# Altium footprint library MECH_MOUNTING_HOLE.PcbLib: 30 footprints (part 2 of 2)
Each footprint in its own frame and in the unit in brackets; x right, y up, seen from the top. Pads: shape width x height; smd on the part's side, far side on the other; paste and mask are expansions set on the pad; w line width, h text height; cw(c..) or ccw(c..) is an arc to the next point about the centre after c.
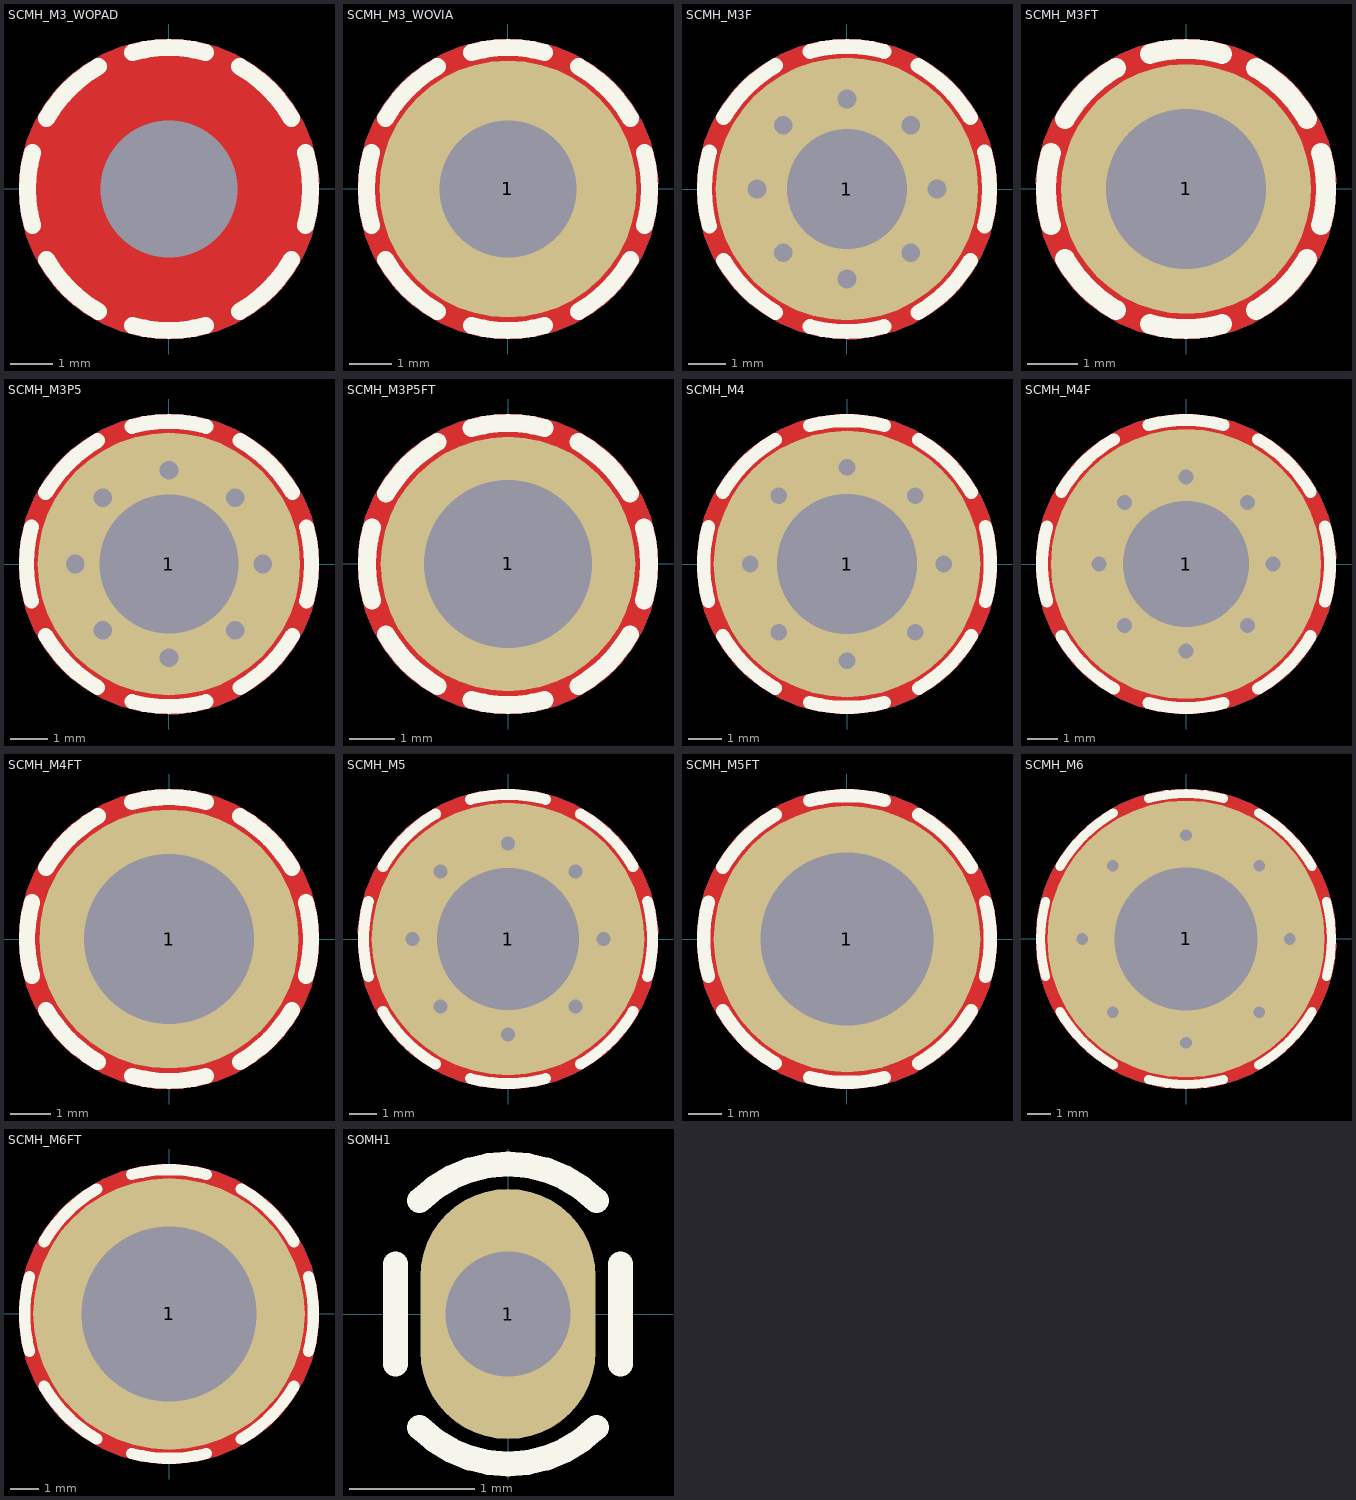
[diagram p1: the footprints below, top view; thin cyan lines are the x and y axes]

## SCMH_M3_WOPAD [mm] "SCREW mouting, M3, 3.0mm diameter and 6.0mm PanHead"
pads (1):
  round 0 hole 3.2 unplated mask+0.1: 1(0,0)
Top Layer:
  pour cut-out: 0,3.5 -0.229,3.5 -0.684,3.44 -1.127,3.321 -1.551,3.146 -1.949,2.916 -2.313,2.637 -2.637,2.313 -2.916,1.949 -3.146,1.551 -3.321,1.127 -3.44,0.684 -3.5,0.229 -3.5,0 -3.5,-0.229 -3.44,-0.684 -3.321,-1.127 -3.146,-1.551 -2.916,-1.949 -2.637,-2.313 -2.313,-2.637 -1.949,-2.916 -1.551,-3.146 -1.127,-3.321 -0.684,-3.44 -0.229,-3.5 0,-3.5 0.229,-3.5 0.684,-3.44 1.127,-3.321 1.551,-3.146 1.949,-2.916 2.313,-2.637 2.637,-2.313 2.916,-1.949 3.146,-1.551 3.321,-1.127 3.44,-0.684 3.5,-0.229 3.5,0 3.5,0.229 3.44,0.684 3.321,1.127 3.146,1.551 2.916,1.949 2.637,2.313 2.313,2.637 1.949,2.916 1.551,3.146 1.127,3.321 0.684,3.44 0.229,3.5
Bottom Layer:
  pour cut-out: 0,3.5 -0.229,3.5 -0.684,3.44 -1.127,3.321 -1.551,3.146 -1.949,2.916 -2.313,2.637 -2.637,2.313 -2.916,1.949 -3.146,1.551 -3.321,1.127 -3.44,0.684 -3.5,0.229 -3.5,0 -3.5,-0.229 -3.44,-0.684 -3.321,-1.127 -3.146,-1.551 -2.916,-1.949 -2.637,-2.313 -2.313,-2.637 -1.949,-2.916 -1.551,-3.146 -1.127,-3.321 -0.684,-3.44 -0.229,-3.5 0,-3.5 0.229,-3.5 0.684,-3.44 1.127,-3.321 1.551,-3.146 1.949,-2.916 2.313,-2.637 2.637,-2.313 2.916,-1.949 3.146,-1.551 3.321,-1.127 3.44,-0.684 3.5,-0.229 3.5,0 3.5,0.229 3.44,0.684 3.321,1.127 3.146,1.551 2.916,1.949 2.637,2.313 2.313,2.637 1.949,2.916 1.551,3.146 1.127,3.321 0.684,3.44 0.229,3.5
Top Overlay:
  lines w0.4: -3.188,-0.854 cw(c0,0) -3.188,0.854 ; -2.858,-1.65 ccw(c0,0) -1.65,-2.858 ; -2.858,1.65 cw(c0,0) -1.65,2.858 ; -0.854,-3.188 ccw(c0,0) 0.854,-3.188 ; -0.854,3.188 cw(c0,0) 0.854,3.188 ; 1.65,-2.858 ccw(c0,0) 2.858,-1.65 ; 1.65,2.858 cw(c0,0) 2.858,1.65 ; 3.188,-0.854 ccw(c0,0) 3.188,0.854

## SCMH_M3_WOVIA [mm] "SCREW mouting, M3, 3.0mm diameter and 6.0mm PanHead"
pads (1):
  round 6 / inner round 3.5 / far side round 6 hole 3.2 mask+0.1: 1(0,0)
Top Layer:
  pour cut-out: 0,3.5 -0.229,3.5 -0.684,3.44 -1.127,3.321 -1.551,3.146 -1.949,2.916 -2.313,2.637 -2.637,2.313 -2.916,1.949 -3.146,1.551 -3.321,1.127 -3.44,0.684 -3.5,0.229 -3.5,0 -3.5,-0.229 -3.44,-0.684 -3.321,-1.127 -3.146,-1.551 -2.916,-1.949 -2.637,-2.313 -2.313,-2.637 -1.949,-2.916 -1.551,-3.146 -1.127,-3.321 -0.684,-3.44 -0.229,-3.5 0,-3.5 0.229,-3.5 0.684,-3.44 1.127,-3.321 1.551,-3.146 1.949,-2.916 2.313,-2.637 2.637,-2.313 2.916,-1.949 3.146,-1.551 3.321,-1.127 3.44,-0.684 3.5,-0.229 3.5,0 3.5,0.229 3.44,0.684 3.321,1.127 3.146,1.551 2.916,1.949 2.637,2.313 2.313,2.637 1.949,2.916 1.551,3.146 1.127,3.321 0.684,3.44 0.229,3.5
Bottom Layer:
  pour cut-out: 0,3.5 -0.229,3.5 -0.684,3.44 -1.127,3.321 -1.551,3.146 -1.949,2.916 -2.313,2.637 -2.637,2.313 -2.916,1.949 -3.146,1.551 -3.321,1.127 -3.44,0.684 -3.5,0.229 -3.5,0 -3.5,-0.229 -3.44,-0.684 -3.321,-1.127 -3.146,-1.551 -2.916,-1.949 -2.637,-2.313 -2.313,-2.637 -1.949,-2.916 -1.551,-3.146 -1.127,-3.321 -0.684,-3.44 -0.229,-3.5 0,-3.5 0.229,-3.5 0.684,-3.44 1.127,-3.321 1.551,-3.146 1.949,-2.916 2.313,-2.637 2.637,-2.313 2.916,-1.949 3.146,-1.551 3.321,-1.127 3.44,-0.684 3.5,-0.229 3.5,0 3.5,0.229 3.44,0.684 3.321,1.127 3.146,1.551 2.916,1.949 2.637,2.313 2.313,2.637 1.949,2.916 1.551,3.146 1.127,3.321 0.684,3.44 0.229,3.5
Top Overlay:
  lines w0.4: -3.188,-0.854 cw(c0,0) -3.188,0.854 ; -2.858,-1.65 ccw(c0,0) -1.65,-2.858 ; -2.858,1.65 cw(c0,0) -1.65,2.858 ; -0.854,-3.188 ccw(c0,0) 0.854,-3.188 ; -0.854,3.188 cw(c0,0) 0.854,3.188 ; 1.65,-2.858 ccw(c0,0) 2.858,-1.65 ; 1.65,2.858 cw(c0,0) 2.858,1.65 ; 3.188,-0.854 ccw(c0,0) 3.188,0.854

## SCMH_M3F [mm] "SCREW mouting, M3, 3.0mm diameter and 6.0mm FlangeHead"
pads (1):
  round 7 / inner round 3.5 / far side round 7 hole 3.2 mask+0.1: 1(0,0)
via -1.697,-1.697 diameter 0.8 hole 0.5
via 1.697,1.697 diameter 0.8 hole 0.5
via -2.4,0 diameter 0.8 hole 0.5
via 2.4,0 diameter 0.8 hole 0.5
via -1.697,1.697 diameter 0.8 hole 0.5
via 1.697,-1.697 diameter 0.8 hole 0.5
via 0,-2.4 diameter 0.8 hole 0.5
via 0,2.4 diameter 0.8 hole 0.5
Top Layer:
  pour cut-out: 0,4 -0.262,4 -0.782,3.932 -1.288,3.796 -1.773,3.595 -2.227,3.333 -2.643,3.014 -3.014,2.643 -3.333,2.227 -3.595,1.773 -3.796,1.289 -3.931,0.782 -4,0.262 -4,0 -4,-0.262 -3.931,-0.782 -3.796,-1.288 -3.595,-1.773 -3.333,-2.227 -3.014,-2.643 -2.643,-3.014 -2.227,-3.333 -1.773,-3.595 -1.288,-3.796 -0.782,-3.931 -0.262,-4 0,-4 0.262,-4 0.782,-3.932 1.289,-3.796 1.773,-3.595 2.227,-3.333 2.643,-3.014 3.014,-2.643 3.333,-2.227 3.595,-1.773 3.796,-1.289 3.932,-0.782 4,-0.262 4,0 4,0.262 3.932,0.782 3.796,1.289 3.595,1.773 3.333,2.227 3.014,2.643 2.643,3.014 2.227,3.333 1.773,3.595 1.289,3.796 0.782,3.932 0.262,4
Bottom Layer:
  pour cut-out: 0,4 -0.262,4 -0.782,3.932 -1.288,3.796 -1.773,3.595 -2.227,3.333 -2.643,3.014 -3.014,2.643 -3.333,2.227 -3.595,1.773 -3.796,1.289 -3.931,0.782 -4,0.262 -4,0 -4,-0.262 -3.931,-0.782 -3.796,-1.288 -3.595,-1.773 -3.333,-2.227 -3.014,-2.643 -2.643,-3.014 -2.227,-3.333 -1.773,-3.595 -1.288,-3.796 -0.782,-3.931 -0.262,-4 0,-4 0.262,-4 0.782,-3.932 1.289,-3.796 1.773,-3.595 2.227,-3.333 2.643,-3.014 3.014,-2.643 3.333,-2.227 3.595,-1.773 3.796,-1.289 3.932,-0.782 4,-0.262 4,0 4,0.262 3.932,0.782 3.796,1.289 3.595,1.773 3.333,2.227 3.014,2.643 2.643,3.014 2.227,3.333 1.773,3.595 1.289,3.796 0.782,3.932 0.262,4
Top Overlay:
  lines w0.4: -3.671,-0.984 cw(c0,0) -3.671,0.984 ; -3.291,-1.9 ccw(c0,0) -1.9,-3.291 ; -3.291,1.9 cw(c0,0) -1.9,3.291 ; -0.984,-3.671 ccw(c0,0) 0.984,-3.671 ; -0.984,3.671 cw(c0,0) 0.984,3.671 ; 1.9,-3.291 ccw(c0,0) 3.291,-1.9 ; 1.9,3.291 cw(c0,0) 3.291,1.9 ; 3.671,-0.984 ccw(c0,0) 3.671,0.984

## SCMH_M3FT [mm] "SCREW mouting, M3, 3.0mm diameter and 6.0mm, FlatHead"
pads (1):
  round 5 / inner round 3.5 / far side round 5 hole 3.2 mask+0.1: 1(0,0)
Top Layer:
  pour cut-out: 0,3 -0.197,3 -0.587,2.949 -0.966,2.847 -1.33,2.696 -1.67,2.5 -1.982,2.26 -2.26,1.982 -2.5,1.67 -2.696,1.33 -2.847,0.966 -2.949,0.587 -3,0.197 -3,0 -3,-0.197 -2.949,-0.587 -2.847,-0.966 -2.696,-1.33 -2.5,-1.67 -2.26,-1.982 -1.982,-2.26 -1.67,-2.5 -1.33,-2.696 -0.966,-2.847 -0.587,-2.949 -0.197,-3 0,-3 0.197,-3 0.587,-2.949 0.966,-2.847 1.33,-2.696 1.67,-2.5 1.982,-2.26 2.26,-1.982 2.5,-1.67 2.696,-1.33 2.847,-0.966 2.949,-0.587 3,-0.197 3,0 3,0.197 2.949,0.587 2.847,0.966 2.696,1.33 2.5,1.67 2.26,1.982 1.982,2.26 1.67,2.5 1.33,2.696 0.966,2.847 0.587,2.949 0.197,3
Bottom Layer:
  pour cut-out: 0,3 -0.197,3 -0.587,2.949 -0.966,2.847 -1.33,2.696 -1.67,2.5 -1.982,2.26 -2.26,1.982 -2.5,1.67 -2.696,1.33 -2.847,0.966 -2.949,0.587 -3,0.197 -3,0 -3,-0.197 -2.949,-0.587 -2.847,-0.966 -2.696,-1.33 -2.5,-1.67 -2.26,-1.982 -1.982,-2.26 -1.67,-2.5 -1.33,-2.696 -0.966,-2.847 -0.587,-2.949 -0.197,-3 0,-3 0.197,-3 0.587,-2.949 0.966,-2.847 1.33,-2.696 1.67,-2.5 1.982,-2.26 2.26,-1.982 2.5,-1.67 2.696,-1.33 2.847,-0.966 2.949,-0.587 3,-0.197 3,0 3,0.197 2.949,0.587 2.847,0.966 2.696,1.33 2.5,1.67 2.26,1.982 1.982,2.26 1.67,2.5 1.33,2.696 0.966,2.847 0.587,2.949 0.197,3
Top Overlay:
  lines w0.4: -2.705,-0.725 cw(c0,0) -2.705,0.725 ; -2.425,-1.4 ccw(c0,0) -1.4,-2.425 ; -2.425,1.4 cw(c0,0) -1.4,2.425 ; -0.725,-2.705 ccw(c0,0) 0.725,-2.705 ; -0.725,2.705 cw(c0,0) 0.725,2.705 ; 1.4,-2.425 ccw(c0,0) 2.425,-1.4 ; 1.4,2.425 cw(c0,0) 2.425,1.4 ; 2.705,-0.725 ccw(c0,0) 2.705,0.725

## SCMH_M3P5 [mm] "SCREW mouting, M3.5, 3.5mm diameter and 7.0mm PanHead"
pads (1):
  round 7 / inner round 4 / far side round 7 hole 3.7 mask+0.1: 1(0,0)
via 0,-2.5 diameter 0.8 hole 0.5
via 0,2.5 diameter 0.8 hole 0.5
via -1.768,1.768 diameter 0.8 hole 0.5
via 1.768,-1.768 diameter 0.8 hole 0.5
via -2.5,0 diameter 0.8 hole 0.5
via 2.5,0 diameter 0.8 hole 0.5
via -1.768,-1.768 diameter 0.8 hole 0.5
via 1.768,1.768 diameter 0.8 hole 0.5
Top Layer:
  pour cut-out: 0,4 -0.262,4 -0.782,3.932 -1.288,3.796 -1.773,3.595 -2.227,3.333 -2.643,3.014 -3.014,2.643 -3.333,2.227 -3.595,1.773 -3.796,1.289 -3.931,0.782 -4,0.262 -4,0 -4,-0.262 -3.931,-0.782 -3.796,-1.288 -3.595,-1.773 -3.333,-2.227 -3.014,-2.643 -2.643,-3.014 -2.227,-3.333 -1.773,-3.595 -1.288,-3.796 -0.782,-3.931 -0.262,-4 0,-4 0.262,-4 0.782,-3.932 1.289,-3.796 1.773,-3.595 2.227,-3.333 2.643,-3.014 3.014,-2.643 3.333,-2.227 3.595,-1.773 3.796,-1.289 3.932,-0.782 4,-0.262 4,0 4,0.262 3.932,0.782 3.796,1.289 3.595,1.773 3.333,2.227 3.014,2.643 2.643,3.014 2.227,3.333 1.773,3.595 1.289,3.796 0.782,3.932 0.262,4
Bottom Layer:
  pour cut-out: 0,4 -0.262,4 -0.782,3.932 -1.288,3.796 -1.773,3.595 -2.227,3.333 -2.643,3.014 -3.014,2.643 -3.333,2.227 -3.595,1.773 -3.796,1.289 -3.931,0.782 -4,0.262 -4,0 -4,-0.262 -3.931,-0.782 -3.796,-1.288 -3.595,-1.773 -3.333,-2.227 -3.014,-2.643 -2.643,-3.014 -2.227,-3.333 -1.773,-3.595 -1.288,-3.796 -0.782,-3.931 -0.262,-4 0,-4 0.262,-4 0.782,-3.932 1.289,-3.796 1.773,-3.595 2.227,-3.333 2.643,-3.014 3.014,-2.643 3.333,-2.227 3.595,-1.773 3.796,-1.289 3.932,-0.782 4,-0.262 4,0 4,0.262 3.932,0.782 3.796,1.289 3.595,1.773 3.333,2.227 3.014,2.643 2.643,3.014 2.227,3.333 1.773,3.595 1.289,3.796 0.782,3.932 0.262,4
Top Overlay:
  lines w0.4: -3.671,-0.984 cw(c0,0) -3.671,0.984 ; -3.291,-1.9 ccw(c0,0) -1.9,-3.291 ; -3.291,1.9 cw(c0,0) -1.9,3.291 ; -0.984,-3.671 ccw(c0,0) 0.984,-3.671 ; -0.984,3.671 cw(c0,0) 0.984,3.671 ; 1.9,-3.291 ccw(c0,0) 3.291,-1.9 ; 1.9,3.291 cw(c0,0) 3.291,1.9 ; 3.671,-0.984 ccw(c0,0) 3.671,0.984

## SCMH_M3P5FT [mm] "SCREW mouting, M3.5, 3.5mm diameter and 7.0mm, FlatHead"
pads (1):
  round 5.6 / inner round 4 / far side round 5.6 hole 3.7 mask+0.1: 1(0,0)
Top Layer:
  pour cut-out: 0,3.3 -0.216,3.3 -0.645,3.244 -1.063,3.132 -1.463,2.966 -1.837,2.75 -2.181,2.486 -2.486,2.181 -2.75,1.837 -2.966,1.463 -3.132,1.063 -3.244,0.645 -3.3,0.216 -3.3,0 -3.3,-0.216 -3.244,-0.645 -3.132,-1.063 -2.966,-1.463 -2.75,-1.837 -2.486,-2.181 -2.181,-2.486 -1.837,-2.75 -1.463,-2.966 -1.063,-3.132 -0.645,-3.244 -0.216,-3.3 0,-3.3 0.216,-3.3 0.645,-3.244 1.063,-3.132 1.463,-2.966 1.837,-2.75 2.18,-2.486 2.486,-2.181 2.75,-1.837 2.966,-1.463 3.132,-1.063 3.244,-0.645 3.3,-0.216 3.3,0 3.3,0.216 3.244,0.645 3.132,1.063 2.966,1.463 2.75,1.837 2.486,2.181 2.181,2.486 1.837,2.75 1.463,2.966 1.063,3.132 0.645,3.244 0.216,3.3
Bottom Layer:
  pour cut-out: 0,3.3 -0.216,3.3 -0.645,3.244 -1.063,3.132 -1.463,2.966 -1.837,2.75 -2.181,2.486 -2.486,2.181 -2.75,1.837 -2.966,1.463 -3.132,1.063 -3.244,0.645 -3.3,0.216 -3.3,0 -3.3,-0.216 -3.244,-0.645 -3.132,-1.063 -2.966,-1.463 -2.75,-1.837 -2.486,-2.181 -2.181,-2.486 -1.837,-2.75 -1.463,-2.966 -1.063,-3.132 -0.645,-3.244 -0.216,-3.3 0,-3.3 0.216,-3.3 0.645,-3.244 1.063,-3.132 1.463,-2.966 1.837,-2.75 2.18,-2.486 2.486,-2.181 2.75,-1.837 2.966,-1.463 3.132,-1.063 3.244,-0.645 3.3,-0.216 3.3,0 3.3,0.216 3.244,0.645 3.132,1.063 2.966,1.463 2.75,1.837 2.486,2.181 2.181,2.486 1.837,2.75 1.463,2.966 1.063,3.132 0.645,3.244 0.216,3.3
Top Overlay:
  lines w0.4: -2.994,-0.802 cw(c0,0) -2.994,0.802 ; -2.685,-1.55 ccw(c0,0) -1.55,-2.685 ; -2.685,1.55 cw(c0,0) -1.55,2.685 ; -0.802,-2.994 ccw(c0,0) 0.802,-2.994 ; -0.802,2.994 cw(c0,0) 0.802,2.994 ; 1.55,-2.685 ccw(c0,0) 2.685,-1.55 ; 1.55,2.685 cw(c0,0) 2.685,1.55 ; 2.994,-0.802 ccw(c0,0) 2.994,0.802

## SCMH_M4 [mm] "SCREW mouting, M4, 4mm diameter and 8.0mm PanHead"
pads (1):
  round 8 / inner round 4.5 / far side round 8 hole 4.2 mask+0.1: 1(0,0)
via -2.051,-2.051 diameter 0.8 hole 0.5
via 2.051,2.051 diameter 0.8 hole 0.5
via -2.9,0 diameter 0.8 hole 0.5
via 2.9,0 diameter 0.8 hole 0.5
via -2.051,2.051 diameter 0.8 hole 0.5
via 2.051,-2.051 diameter 0.8 hole 0.5
via 0,-2.9 diameter 0.8 hole 0.5
via 0,2.9 diameter 0.8 hole 0.5
Top Layer:
  pour cut-out: 0,4.5 -0.295,4.5 -0.88,4.423 -1.45,4.27 -1.994,4.045 -2.505,3.75 -2.973,3.391 -3.39,2.974 -3.749,2.506 -4.044,1.995 -4.27,1.45 -4.423,0.88 -4.5,0.295 -4.5,0 -4.5,-0.295 -4.423,-0.879 -4.27,-1.449 -4.044,-1.994 -3.749,-2.505 -3.39,-2.973 -2.973,-3.39 -2.505,-3.749 -1.994,-4.044 -1.449,-4.269 -0.88,-4.422 -0.295,-4.499 0,-4.499 0.295,-4.499 0.88,-4.422 1.449,-4.269 1.994,-4.044 2.505,-3.749 2.973,-3.39 3.39,-2.973 3.749,-2.505 4.044,-1.994 4.27,-1.449 4.422,-0.879 4.499,-0.295 4.499,0 4.499,0.295 4.422,0.88 4.27,1.45 4.044,1.995 3.749,2.506 3.39,2.973 2.973,3.391 2.505,3.75 1.994,4.045 1.449,4.27 0.88,4.423 0.295,4.5
Bottom Layer:
  pour cut-out: 0,4.5 -0.295,4.5 -0.88,4.423 -1.45,4.27 -1.994,4.045 -2.505,3.75 -2.973,3.391 -3.39,2.974 -3.749,2.506 -4.044,1.995 -4.27,1.45 -4.423,0.88 -4.5,0.295 -4.5,0 -4.5,-0.295 -4.423,-0.879 -4.27,-1.449 -4.044,-1.994 -3.749,-2.505 -3.39,-2.973 -2.973,-3.39 -2.505,-3.749 -1.994,-4.044 -1.449,-4.269 -0.88,-4.422 -0.295,-4.499 0,-4.499 0.295,-4.499 0.88,-4.422 1.449,-4.269 1.994,-4.044 2.505,-3.749 2.973,-3.39 3.39,-2.973 3.749,-2.505 4.044,-1.994 4.27,-1.449 4.422,-0.879 4.499,-0.295 4.499,0 4.499,0.295 4.422,0.88 4.27,1.45 4.044,1.995 3.749,2.506 3.39,2.973 2.973,3.391 2.505,3.75 1.994,4.045 1.449,4.27 0.88,4.423 0.295,4.5
Top Overlay:
  lines w0.4: -4.153,-1.113 cw(c0,0) -4.153,1.113 ; -3.724,-2.15 ccw(c0,0) -2.15,-3.724 ; -3.724,2.15 cw(c0,0) -2.15,3.724 ; -1.113,-4.153 ccw(c0,0) 1.113,-4.153 ; -1.113,4.153 cw(c0,0) 1.113,4.153 ; 2.15,-3.724 ccw(c0,0) 3.724,-2.15 ; 2.15,3.724 cw(c0,0) 3.724,2.15 ; 4.153,-1.113 ccw(c0,0) 4.153,1.113

## SCMH_M4F [mm] "SCREW mouting, M4, 4mm diameter and 8.0mm FlangeHead"
pads (1):
  round 9 / inner round 4.5 / far side round 9 hole 4.2 mask+0.1: 1(0,0)
via 0,2.9 diameter 0.8 hole 0.5
via 0,-2.9 diameter 0.8 hole 0.5
via 2.051,-2.051 diameter 0.8 hole 0.5
via -2.051,2.051 diameter 0.8 hole 0.5
via 2.9,0 diameter 0.8 hole 0.5
via -2.9,0 diameter 0.8 hole 0.5
via 2.051,2.051 diameter 0.8 hole 0.5
via -2.051,-2.051 diameter 0.8 hole 0.5
Top Layer:
  pour cut-out: 0,5 -0.328,5 -0.978,4.915 -1.611,4.745 -2.216,4.494 -2.784,4.167 -3.304,3.768 -3.767,3.304 -4.166,2.784 -4.494,2.217 -4.745,1.611 -4.914,0.978 -5,0.328 -5,0 -5,-0.327 -4.914,-0.977 -4.745,-1.61 -4.494,-2.216 -4.166,-2.784 -3.767,-3.304 -3.304,-3.767 -2.784,-4.166 -2.216,-4.494 -1.611,-4.745 -0.978,-4.914 -0.328,-5 0,-5 0.328,-5 0.978,-4.914 1.611,-4.745 2.216,-4.494 2.784,-4.166 3.304,-3.767 3.767,-3.304 4.166,-2.784 4.494,-2.216 4.745,-1.61 4.914,-0.977 5,-0.327 5,0 5,0.328 4.914,0.978 4.745,1.611 4.494,2.217 4.166,2.784 3.767,3.304 3.304,3.768 2.784,4.167 2.216,4.494 1.611,4.745 0.978,4.915 0.328,5
Bottom Layer:
  pour cut-out: 0,5 -0.328,5 -0.978,4.915 -1.611,4.745 -2.216,4.494 -2.784,4.167 -3.304,3.768 -3.767,3.304 -4.166,2.784 -4.494,2.217 -4.745,1.611 -4.914,0.978 -5,0.328 -5,0 -5,-0.327 -4.914,-0.977 -4.745,-1.61 -4.494,-2.216 -4.166,-2.784 -3.767,-3.304 -3.304,-3.767 -2.784,-4.166 -2.216,-4.494 -1.611,-4.745 -0.978,-4.914 -0.328,-5 0,-5 0.328,-5 0.978,-4.914 1.611,-4.745 2.216,-4.494 2.784,-4.166 3.304,-3.767 3.767,-3.304 4.166,-2.784 4.494,-2.216 4.745,-1.61 4.914,-0.977 5,-0.327 5,0 5,0.328 4.914,0.978 4.745,1.611 4.494,2.217 4.166,2.784 3.767,3.304 3.304,3.768 2.784,4.167 2.216,4.494 1.611,4.745 0.978,4.915 0.328,5
Top Overlay:
  lines w0.4: -4.636,-1.242 cw(c0,0) -4.636,1.242 ; -4.157,-2.4 ccw(c0,0) -2.4,-4.157 ; -4.157,2.4 cw(c0,0) -2.4,4.157 ; -1.242,-4.636 ccw(c0,0) 1.242,-4.636 ; -1.242,4.636 cw(c0,0) 1.242,4.636 ; 2.4,-4.157 ccw(c0,0) 4.157,-2.4 ; 2.4,4.157 cw(c0,0) 4.157,2.4 ; 4.636,-1.242 ccw(c0,0) 4.636,1.242

## SCMH_M4FT [mm] "SCREW mouting, M4, 4mm diameter and 8.0mm, FlatHead"
pads (1):
  round 6.4 / inner round 4.5 / far side round 6.4 hole 4.2 mask+0.1: 1(0,0)
Top Layer:
  pour cut-out: 0,3.7 -0.243,3.7 -0.723,3.637 -1.192,3.511 -1.64,3.326 -2.06,3.083 -2.445,2.788 -2.788,2.445 -3.083,2.06 -3.326,1.64 -3.511,1.192 -3.637,0.724 -3.7,0.243 -3.7,0 -3.7,-0.242 -3.637,-0.723 -3.511,-1.192 -3.326,-1.64 -3.083,-2.06 -2.788,-2.445 -2.445,-2.788 -2.06,-3.083 -1.64,-3.325 -1.192,-3.511 -0.723,-3.636 -0.243,-3.7 0,-3.7 0.242,-3.7 0.723,-3.636 1.192,-3.511 1.64,-3.325 2.06,-3.083 2.445,-2.787 2.788,-2.445 3.083,-2.06 3.326,-1.64 3.511,-1.192 3.637,-0.723 3.7,-0.242 3.7,0 3.7,0.243 3.637,0.724 3.511,1.192 3.326,1.64 3.083,2.06 2.788,2.445 2.445,2.788 2.06,3.083 1.64,3.326 1.192,3.512 0.723,3.637 0.242,3.7
Top Overlay:
  lines w0.4: -3.381,-0.906 cw(c0,0) -3.381,0.906 ; -3.031,-1.75 ccw(c0,0) -1.75,-3.031 ; -3.031,1.75 cw(c0,0) -1.75,3.031 ; -0.906,-3.381 ccw(c0,0) 0.906,-3.381 ; -0.906,3.381 cw(c0,0) 0.906,3.381 ; 1.75,-3.031 ccw(c0,0) 3.031,-1.75 ; 1.75,3.031 cw(c0,0) 3.031,1.75 ; 3.381,-0.906 ccw(c0,0) 3.381,0.906

## SCMH_M5 [mm] "SCREW mouting, M5, 5mm diameter and 10.0mm PanHead"
pads (1):
  round 10 / inner round 5.5 / far side round 10 hole 5.2 mask+0.1: 1(0,0)
via -2.475,-2.475 diameter 0.8 hole 0.5
via 2.475,2.475 diameter 0.8 hole 0.5
via -3.5,0 diameter 0.8 hole 0.5
via 3.5,0 diameter 0.8 hole 0.5
via -2.475,2.475 diameter 0.8 hole 0.5
via 2.475,-2.475 diameter 0.8 hole 0.5
via 0,-3.5 diameter 0.8 hole 0.5
via 0,3.5 diameter 0.8 hole 0.5
Top Layer:
  pour cut-out: 0,5.5 -0.36,5.5 -1.075,5.406 -1.772,5.219 -2.438,4.944 -3.062,4.583 -3.634,4.144 -4.144,3.634 -4.583,3.062 -4.943,2.438 -5.219,1.772 -5.406,1.076 -5.5,0.361 -5.5,0 -5.5,-0.36 -5.406,-1.075 -5.219,-1.771 -4.943,-2.437 -4.583,-3.062 -4.144,-3.634 -3.634,-4.144 -3.062,-4.582 -2.437,-4.943 -1.771,-5.219 -1.075,-5.405 -0.36,-5.499 0.001,-5.499 0.361,-5.499 1.076,-5.405 1.772,-5.218 2.438,-4.943 3.062,-4.582 3.634,-4.143 4.144,-3.633 4.583,-3.062 4.943,-2.437 5.219,-1.771 5.406,-1.075 5.5,-0.36 5.5,0 5.5,0.361 5.406,1.076 5.219,1.772 4.943,2.438 4.583,3.062 4.144,3.634 3.634,4.144 3.062,4.583 2.438,4.944 1.772,5.219 1.075,5.406 0.36,5.5
Bottom Layer:
  pour cut-out: 0,5.5 -0.36,5.5 -1.075,5.406 -1.772,5.219 -2.438,4.944 -3.062,4.583 -3.634,4.144 -4.144,3.634 -4.583,3.062 -4.943,2.438 -5.219,1.772 -5.406,1.076 -5.5,0.361 -5.5,0 -5.5,-0.36 -5.406,-1.075 -5.219,-1.771 -4.943,-2.437 -4.583,-3.062 -4.144,-3.634 -3.634,-4.144 -3.062,-4.582 -2.437,-4.943 -1.771,-5.219 -1.075,-5.405 -0.36,-5.499 0.001,-5.499 0.361,-5.499 1.076,-5.405 1.772,-5.218 2.438,-4.943 3.062,-4.582 3.634,-4.143 4.144,-3.633 4.583,-3.062 4.943,-2.437 5.219,-1.771 5.406,-1.075 5.5,-0.36 5.5,0 5.5,0.361 5.406,1.076 5.219,1.772 4.943,2.438 4.583,3.062 4.144,3.634 3.634,4.144 3.062,4.583 2.438,4.944 1.772,5.219 1.075,5.406 0.36,5.5
Top Overlay:
  lines w0.4: -5.119,-1.372 cw(c0,0) -5.119,1.372 ; -4.59,-2.65 ccw(c0,0) -2.65,-4.59 ; -4.59,2.65 cw(c0,0) -2.65,4.59 ; -1.372,-5.119 ccw(c0,0) 1.372,-5.119 ; -1.372,5.119 cw(c0,0) 1.372,5.119 ; 2.65,-4.59 ccw(c0,0) 4.59,-2.65 ; 2.65,4.59 cw(c0,0) 4.59,2.65 ; 5.119,-1.372 ccw(c0,0) 5.119,1.372

## SCMH_M5FT [mm] "SCREW mouting, M5, 5mm diameter and 10.0mm, FlatHead"
pads (1):
  round 8 / inner round 5.5 / far side round 8 hole 5.2 mask+0.1: 1(0,0)
Top Layer:
  pour cut-out: 0.001,4.5 -0.294,4.5 -0.879,4.423 -1.449,4.27 -1.994,4.045 -2.505,3.75 -2.973,3.391 -3.39,2.974 -3.749,2.506 -4.044,1.995 -4.269,1.45 -4.422,0.88 -4.499,0.295 -4.499,0 -4.499,-0.295 -4.422,-0.879 -4.269,-1.449 -4.043,-1.994 -3.748,-2.505 -3.389,-2.973 -2.972,-3.39 -2.504,-3.748 -1.993,-4.043 -1.448,-4.269 -0.879,-4.421 -0.294,-4.498 0.001,-4.498 0.296,-4.498 0.881,-4.421 1.45,-4.269 1.995,-4.043 2.506,-3.748 2.974,-3.389 3.391,-2.972 3.75,-2.504 4.044,-1.994 4.27,-1.449 4.423,-0.879 4.5,-0.295 4.5,0 4.5,0.295 4.423,0.88 4.27,1.45 4.045,1.995 3.75,2.506 3.391,2.973 2.974,3.391 2.506,3.75 1.995,4.045 1.45,4.27 0.88,4.423 0.296,4.5
Bottom Layer:
  pour cut-out: 0.001,4.5 -0.294,4.5 -0.879,4.423 -1.449,4.27 -1.994,4.045 -2.505,3.75 -2.973,3.391 -3.39,2.974 -3.749,2.506 -4.044,1.995 -4.269,1.45 -4.422,0.88 -4.499,0.295 -4.499,0 -4.499,-0.295 -4.422,-0.879 -4.269,-1.449 -4.043,-1.994 -3.748,-2.505 -3.389,-2.973 -2.972,-3.39 -2.504,-3.748 -1.993,-4.043 -1.448,-4.269 -0.879,-4.421 -0.294,-4.498 0.001,-4.498 0.296,-4.498 0.881,-4.421 1.45,-4.269 1.995,-4.043 2.506,-3.748 2.974,-3.389 3.391,-2.972 3.75,-2.504 4.044,-1.994 4.27,-1.449 4.423,-0.879 4.5,-0.295 4.5,0 4.5,0.295 4.423,0.88 4.27,1.45 4.045,1.995 3.75,2.506 3.391,2.973 2.974,3.391 2.506,3.75 1.995,4.045 1.45,4.27 0.88,4.423 0.296,4.5
Top Overlay:
  lines w0.4: -4.153,-1.113 cw(c0,0) -4.153,1.113 ; -3.724,-2.15 ccw(c0,0) -2.15,-3.724 ; -3.724,2.15 cw(c0,0) -2.15,3.724 ; -1.113,-4.153 ccw(c0,0) 1.113,-4.153 ; -1.113,4.153 cw(c0,0) 1.113,4.153 ; 2.15,-3.724 ccw(c0,0) 3.724,-2.15 ; 2.15,3.724 cw(c0,0) 3.724,2.15 ; 4.153,-1.113 ccw(c0,0) 4.153,1.113

## SCMH_M6 [mm] "SCREW mouting, M6, 6mm diameter and 12mm PanHead"
pads (1):
  round 12 / inner round 6.5 / far side round 12 hole 6.2 mask+0.1: 1(0,0)
via 3.182,3.182 diameter 0.8 hole 0.5
via 4.5,0 diameter 0.8 hole 0.5
via 3.182,-3.182 diameter 0.8 hole 0.5
via 0,-4.5 diameter 0.8 hole 0.5
via -3.182,-3.182 diameter 0.8 hole 0.5
via -4.5,0 diameter 0.8 hole 0.5
via -3.182,3.182 diameter 0.8 hole 0.5
via 0,4.5 diameter 0.8 hole 0.5
Top Layer:
  pour cut-out: 0,6.5 0.319,6.5 0.955,6.437 1.581,6.313 2.192,6.127 2.782,5.883 3.346,5.582 3.877,5.227 4.37,4.822 4.822,4.37 5.227,3.877 5.582,3.346 5.883,2.782 6.127,2.192 6.313,1.581 6.437,0.955 6.5,0.319 6.5,0 6.5,-0.319 6.437,-0.955 6.313,-1.581 6.127,-2.192 5.883,-2.782 5.582,-3.346 5.227,-3.877 4.822,-4.37 4.37,-4.822 3.877,-5.227 3.346,-5.582 2.782,-5.883 2.192,-6.127 1.581,-6.313 0.955,-6.437 0.319,-6.5 0,-6.5 -0.319,-6.5 -0.955,-6.437 -1.581,-6.313 -2.192,-6.127 -2.782,-5.883 -3.346,-5.582 -3.877,-5.227 -4.37,-4.822 -4.822,-4.37 -5.227,-3.877 -5.582,-3.346 -5.883,-2.782 -6.127,-2.192 -6.313,-1.581 -6.437,-0.955 -6.5,-0.319 -6.5,0 -6.5,0.319 -6.437,0.955 -6.313,1.581 -6.127,2.192 -5.883,2.782 -5.582,3.346 -5.227,3.877 -4.822,4.37 -4.37,4.822 -3.877,5.227 -3.346,5.582 -2.782,5.883 -2.192,6.127 -1.581,6.313 -0.955,6.437 -0.319,6.5
Bottom Layer:
  pour cut-out: 0,6.5 0.319,6.5 0.955,6.437 1.581,6.313 2.192,6.127 2.782,5.883 3.346,5.582 3.877,5.227 4.37,4.822 4.822,4.37 5.227,3.877 5.582,3.346 5.883,2.782 6.127,2.192 6.313,1.581 6.437,0.955 6.5,0.319 6.5,0 6.5,-0.319 6.437,-0.955 6.313,-1.581 6.127,-2.192 5.883,-2.782 5.582,-3.346 5.227,-3.877 4.822,-4.37 4.37,-4.822 3.877,-5.227 3.346,-5.582 2.782,-5.883 2.192,-6.127 1.581,-6.313 0.955,-6.437 0.319,-6.5 0,-6.5 -0.319,-6.5 -0.955,-6.437 -1.581,-6.313 -2.192,-6.127 -2.782,-5.883 -3.346,-5.582 -3.877,-5.227 -4.37,-4.822 -4.822,-4.37 -5.227,-3.877 -5.582,-3.346 -5.883,-2.782 -6.127,-2.192 -6.313,-1.581 -6.437,-0.955 -6.5,-0.319 -6.5,0 -6.5,0.319 -6.437,0.955 -6.313,1.581 -6.127,2.192 -5.883,2.782 -5.582,3.346 -5.227,3.877 -4.822,4.37 -4.37,4.822 -3.877,5.227 -3.346,5.582 -2.782,5.883 -2.192,6.127 -1.581,6.313 -0.955,6.437 -0.319,6.5
Top Overlay:
  lines w0.4: -6.085,-1.631 cw(c0,0) -6.085,1.631 ; -5.456,-3.15 ccw(c0,0) -3.15,-5.456 ; -5.456,3.15 cw(c0,0) -3.15,5.456 ; -1.631,-6.085 ccw(c0,0) 1.631,-6.085 ; -1.631,6.085 cw(c0,0) 1.631,6.085 ; 3.15,-5.456 ccw(c0,0) 5.456,-3.15 ; 3.15,5.456 cw(c0,0) 5.456,3.15 ; 6.085,-1.631 ccw(c0,0) 6.085,1.631

## SCMH_M6FT [mm] "SCREW mouting, M5, 5mm diameter and 9.6mm, FlatHead"
pads (1):
  round 9.6 / inner round 6.5 / far side round 9.6 hole 6.2 mask+0.1: 1(0,0)
Top Layer:
  pour cut-out: 0,5.3 0.347,5.3 1.036,5.209 1.707,5.029 2.349,4.764 2.951,4.416 3.502,3.993 3.993,3.502 4.416,2.951 4.764,2.349 5.029,1.707 5.209,1.036 5.3,0.347 5.3,0 5.3,-0.347 5.209,-1.036 5.029,-1.707 4.764,-2.349 4.416,-2.951 3.993,-3.502 3.502,-3.993 2.951,-4.416 2.349,-4.764 1.707,-5.03 1.036,-5.209 0.347,-5.3 0,-5.3 -0.347,-5.3 -1.036,-5.209 -1.707,-5.03 -2.349,-4.764 -2.951,-4.416 -3.502,-3.993 -3.993,-3.502 -4.416,-2.951 -4.764,-2.349 -5.03,-1.707 -5.209,-1.036 -5.3,-0.347 -5.3,0 -5.3,0.347 -5.209,1.036 -5.03,1.707 -4.764,2.349 -4.416,2.951 -3.993,3.502 -3.502,3.993 -2.951,4.416 -2.349,4.764 -1.707,5.029 -1.036,5.209 -0.347,5.3
Bottom Layer:
  pour cut-out: 0,5.3 0.347,5.3 1.036,5.209 1.707,5.029 2.349,4.764 2.951,4.416 3.502,3.993 3.993,3.502 4.416,2.951 4.764,2.349 5.029,1.707 5.209,1.036 5.3,0.347 5.3,0 5.3,-0.347 5.209,-1.036 5.029,-1.707 4.764,-2.349 4.416,-2.951 3.993,-3.502 3.502,-3.993 2.951,-4.416 2.349,-4.764 1.707,-5.03 1.036,-5.209 0.347,-5.3 0,-5.3 -0.347,-5.3 -1.036,-5.209 -1.707,-5.03 -2.349,-4.764 -2.951,-4.416 -3.502,-3.993 -3.993,-3.502 -4.416,-2.951 -4.764,-2.349 -5.03,-1.707 -5.209,-1.036 -5.3,-0.347 -5.3,0 -5.3,0.347 -5.209,1.036 -5.03,1.707 -4.764,2.349 -4.416,2.951 -3.993,3.502 -3.502,3.993 -2.951,4.416 -2.349,4.764 -1.707,5.029 -1.036,5.209 -0.347,5.3
Top Overlay:
  lines w0.4: -4.926,-1.32 cw(c0,0) -4.926,1.32 ; -4.417,-2.55 ccw(c0,0) -2.55,-4.417 ; -4.417,2.55 cw(c0,0) -2.55,4.417 ; -1.32,-4.926 ccw(c0,0) 1.32,-4.926 ; -1.32,4.926 cw(c0,0) 1.32,4.926 ; 2.55,-4.417 ccw(c0,0) 4.417,-2.55 ; 2.55,4.417 cw(c0,0) 4.417,2.55 ; 4.926,-1.32 ccw(c0,0) 4.926,1.32

## SOMH1 [mm] "Solder Mounting, Hole 1mm"
pads (1):
  oval 1.4x2 hole 1 mask+0.1: 1(0,0)
Top Overlay:
  lines w0.2: -0.9,-0.4 -0.9,0.4 ; -0.707,-0.907 ccw(c0,-0.2) 0.707,-0.907 ; -0.707,0.907 cw(c0,0.2) 0.707,0.907 ; 0.9,-0.4 0.9,0.4